# Altium footprint library LPSON_RES.PcbLib: 28 footprints (part 1 of 2)
Each footprint in its own frame and in the unit in brackets; x right, y up, seen from the top. Pads: shape width x height; smd on the part's side, far side on the other; paste and mask are expansions set on the pad; w line width, h text height; cw(c..) or ccw(c..) is an arc to the next point about the centre after c.
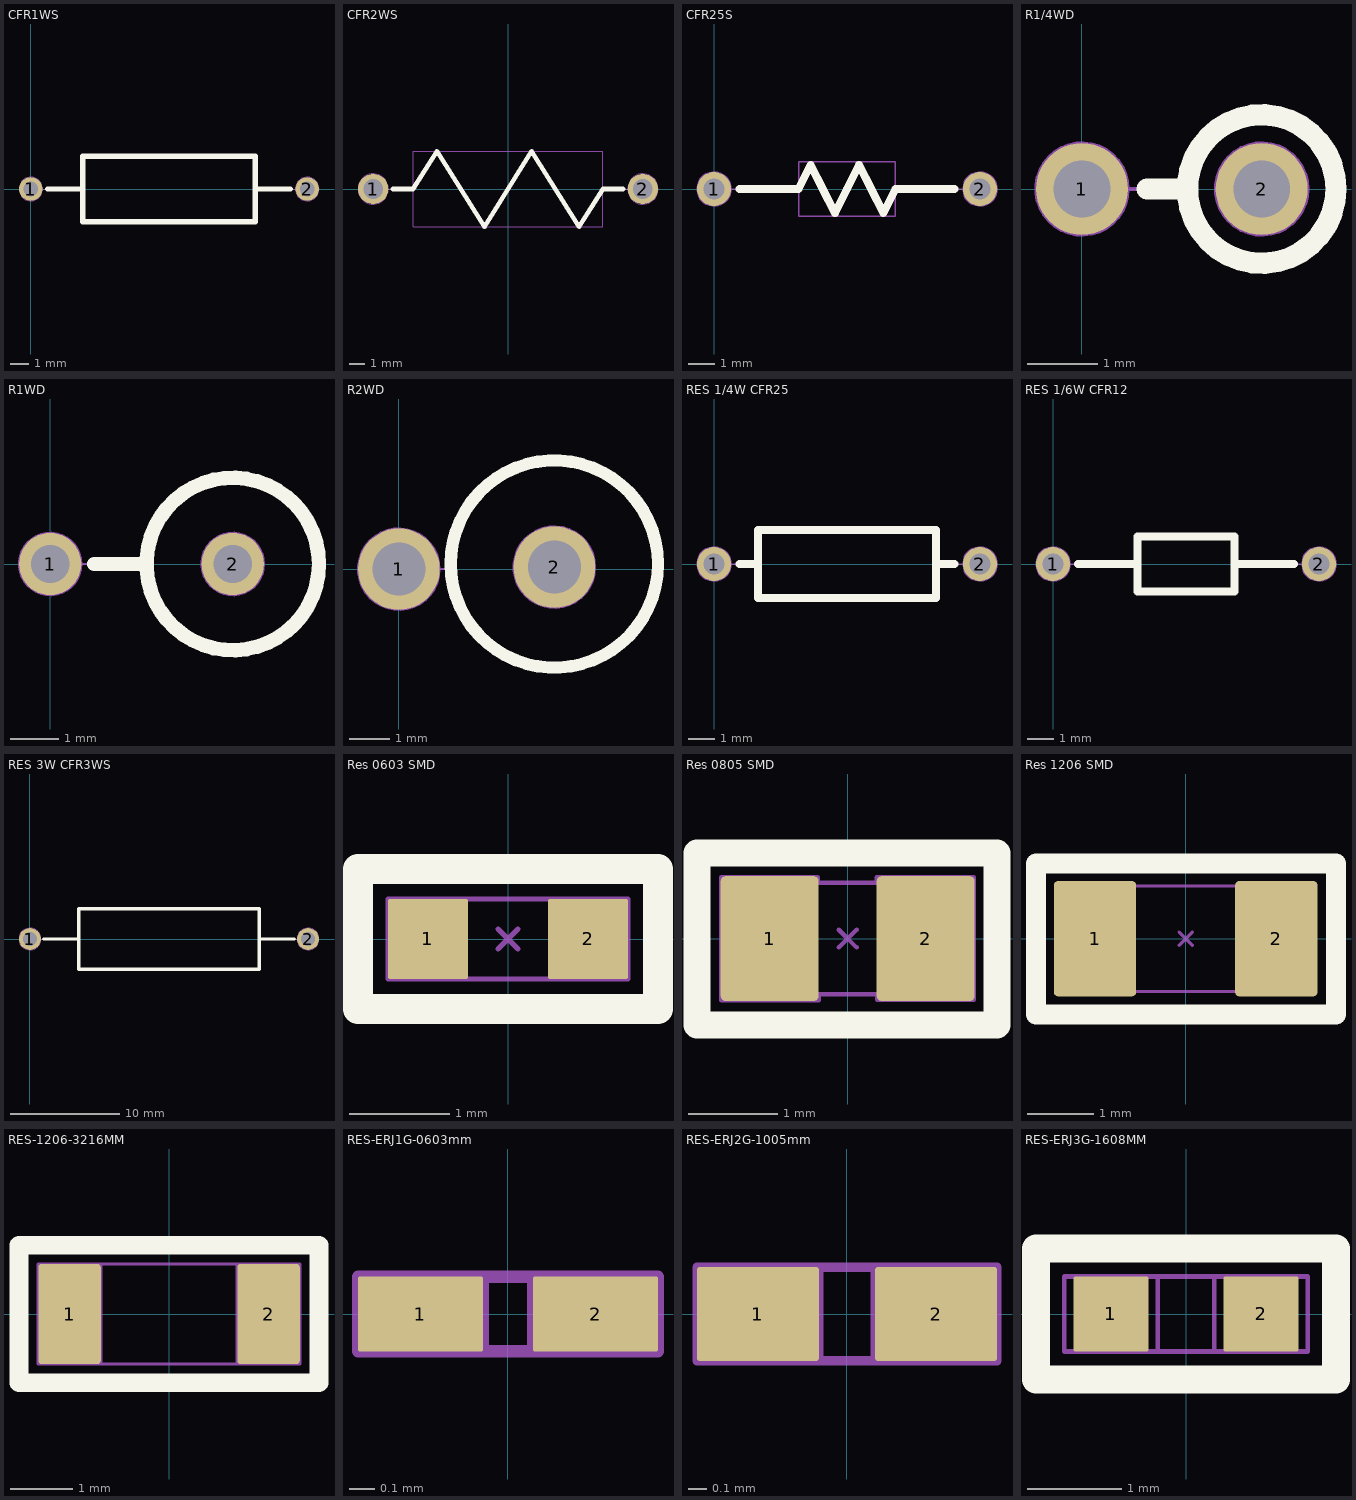
[diagram p0: the footprints below, top view; thin cyan lines are the x and y axes]

## CFR1WS [mm] "RESISTOR_1W"
height 3.6
pads (2):
  round 1.3 hole 0.8: 1(0,0) 2(15.24,0)
Top Overlay:
  lines w0.3: 0.94,0 2.87,0 ; 12.37,0 14.32,0 ; 2.87,-1.8 2.87,1.8 12.37,1.8 12.37,-1.8 2.87,-1.8
Mechanical 1:
  circle w0.05: c15.24,0 r0.65
  circle w0.05: c0,0 r0.65
  lines w0.05: 0.65,0 2.87,0 ; 12.37,0 14.58,0 ; 2.87,-1.8 2.87,1.8 12.37,1.8 12.37,-1.8 2.87,-1.8

## CFR2WS [mm] "RESISTOR_2W"
height 5
pads (2):
  round 2 hole 1.3: 1(-8.89,0) 2(8.89,0)
Top Overlay:
  lines w0.3: -7.6,0 -6.254,0 -4.687,2.5 -1.538,-2.5 ; -1.562,-2.5 1.562,2.5 4.687,-2.5 6.254,0 7.6,0
Mechanical 1:
  circle w0.05: c-8.89,0 r1
  circle w0.05: c8.89,0 r1
  lines w0.05: -7.89,0 -6.25,0 ; 6.25,0 7.9,0 ; 6.25,-2.5 6.25,2.5 ; 6.25,-2.5 -6.25,-2.5 -6.25,2.5 6.25,2.5 ; 6.25,-2.5 6.25,2.5

## CFR25S [mm] "RESISTOR_1/4W"
height 2.1
pads (2):
  round 1.3 hole 0.8: 1(0,0) 2(10.16,0)
Top Overlay:
  lines w0.3: 0.98,0 3.226,0 3.692,0.925 ; 9.18,0 6.934,0 6.468,-0.925 6.005,0 5.543,0.925 5.08,0 4.618,-0.925 4.155,0 ; 3.693,0.925 4.155,0 ; 3.692,0.925 3.693,0.925 ; 4.155,0 4.155,0
Mechanical 1:
  circle w0.05: c10.16,0 r0.65
  circle w0.05: c0,0 r0.65
  lines w0.05: 0.65,0 3.23,0 ; 6.93,0 9.5,0 ; 3.23,-1.05 6.93,-1.05 6.93,1.05 3.23,1.05 3.23,-1.05
3D body "User Library-RESISTOR  0_25 W  0_4 IN LEAD PITCH.step": height 2.93, standoff -2.54, extent -0.305,-1.156 10.465,1.156

## R1/4WD [mm] "R 1/4W, 2 Pin 2.54 stand"
height 4.7
pads (2):
  round 1.3 hole 0.8: 1(0,0) 2(2.54,0)
Top Overlay:
  circle w0.3: c2.54,0 r1.05
  lines w0.3: 0.92,0 1.49,0
Mechanical 1:
  circle w0.05: c2.54,0 r1.05
  circle w0.05: c2.54,0 r0.65
  circle w0.05: c0,0 r0.65
  lines w0.05: 0.65,0 1.49,0
3D body "SW3dPS-Res_Stand.STEP": height 7.3, standoff -1.45, extent -0.252,-0.85 3.46,0.991

## R1WD [mm] "R 1W, 2 pin 3.81 stand"
height 10.5
pads (2):
  round 1.3 hole 0.8: 1(0,0) 2(3.81,0)
Top Overlay:
  circle w0.3: c3.81,0 r1.8
  lines w0.3: 0.92,0 1.94,0
Mechanical 1:
  circle w0.05: c3.81,0 r1.8
  circle w0.05: c0,0 r0.65
  circle w0.05: c3.81,0 r0.65
  lines w0.05: 0.65,0 2.01,0

## R2WD [mm] "R2W, 2 pin 3.81mm stand"
height 13.5
pads (2):
  round 2 hole 1.3: 1(0,0) 2(3.81,0.051)
Top Overlay:
  circle w0.3: c3.81,0.127 r2.54
Mechanical 1:
  circle w0.05: c3.81,0.127 r2.54
  circle w0.05: c0,0 r1
  circle w0.05: c3.81,0.051 r1
  lines w0.05: 1,0 1.27,0

## RES 1/4W CFR25 [mm] "Axial Device, Thru-Hole; 2 Leads fi 0.55"
height 2.6
pads (2):
  round 1.3 hole 0.8 mask+0.1: 1(0,0) 2(10.16,0)
Top Overlay:
  lines w0.3: 0.98,0 1.68,0 ; 8.48,0 9.18,0 ; 1.68,-1.3 1.68,1.3 8.48,1.3 8.48,-1.3 1.68,-1.3
Mechanical 1:
  circle w0.05: c0,0 r0.65
  circle w0.05: c10.16,0 r0.65
  lines w0.05: 0.65,0 1.68,0 ; 8.48,0 9.48,0 ; 1.68,-1.3 8.48,-1.3 8.48,1.3 1.68,1.3 1.68,-1.3
  text "R?" at 0.08,0 h0.5
3D body "User Library-RESISTOR  0_25 W  0_4 IN LEAD PITCH.step": height 2.93, standoff -2.54, extent -0.305,-1.156 10.465,1.156

## RES 1/6W CFR12 [mm] "Axial Device, Thru-Hole; 2 Leads fi 0.45"
height 2.1
pads (2):
  round 1.3 hole 0.8 mask+0.1: 1(0,0) 2(10.16,0)
Top Overlay:
  lines w0.3: 0.953,0 3.23,0 ; 6.93,0 9.207,0 ; 3.23,-1.05 3.23,1.05 6.93,1.05 6.93,-1.05 3.23,-1.05
Mechanical 1:
  circle w0.05: c0,0 r0.65
  circle w0.05: c10.16,0 r0.65
  lines w0.05: 0.65,0 3.23,0 ; 6.93,0 9.512,0 ; 3.23,-1.05 6.93,-1.05 6.93,1.05 3.23,1.05 3.23,-1.05
  text "R?" at 0,0 h0.5
3D body "User Library-RESISTOR  0_25 W  0_4 IN LEAD PITCH.step": height 2.93, standoff -2.54, extent -0.305,-1.156 10.465,1.156

## RES 3W CFR3WS [mm] "Axial Device, Thru-Hole; 2 Leads fi 0.8"
height 5.5
pads (2):
  round 2 hole 1.3 mask+0.1: 1(0,0) 2(25.4,0)
Top Overlay:
  lines w0.3: 1.27,0 4.45,0 ; 20.95,0 24.13,0 ; 4.45,-2.75 20.95,-2.75 20.95,2.75 4.45,2.75 4.45,-2.75
Mechanical 1:
  circle w0.05: c25.4,0 r1
  circle w0.05: c0,0 r1
  lines w0.05: 1,0 4.45,0 ; 20.95,0 24.384,0 ; 4.45,-2.75 4.45,2.75 20.95,2.75 20.95,-2.75 4.45,-2.75
  text "R?" at 0,0 h0.5
3D body "ressitor 3W.step": height 5.6, standoff -7.5, extent 0.87,-2.6 24.53,2.6

## Res 0603 SMD [mm] "Reflow Soldering"
pads (2):
  rrect5% 0.8x0.8 smd mask+0.1: 1(-0.8,0) 2(0.8,0)
Top Overlay:
  lines w0.3: -1.5,-0.7 1.5,-0.7 1.5,0.7 -1.5,0.7 -1.5,-0.7
Mechanical 2:
  lines w0.05: -0.8,-0.4 -1.2,-0.4 -1.2,0.4 -0.8,0.4 ; -0.8,-0.4 -0.8,-0.4 ; -0.8,-0.4 0.8,-0.4 ; -0.8,-0.4 -0.8,0.4 ; -0.8,0.4 0.8,0.4 ; 0.8,-0.4 1.2,-0.4 1.2,0.4 0.8,0.4 ; 0.8,-0.4 0.8,0.4
Mechanical 15:
  lines w0.05: -0.1,-0.1 0.1,0.1 ; -0.1,0.1 0.1,-0.1 ; -0.8,-0.4 -0.8,0.4 0.8,0.4 0.8,-0.4 -0.8,-0.4
3D body "User Library-SMD RESISTOR-10603.STEP": height 0.48, standoff 0.02, extent -0.8,-0.4 0.8,0.4

## Res 0805 SMD [mm] "Reflow Soldering"
pads (2):
  rrect10% 1.1x1.4 smd mask+0.1: 1(-0.875,0) 2(0.875,0)
Top Overlay:
  lines w0.3: -1.69,-0.97 -1.69,0.96 1.675,0.96 1.675,-0.97 -1.69,-0.97
Mechanical 2:
  lines w0.05: -0.331,0.642 -0.334,0.642 -0.334,0.687 -1.416,0.687 -1.416,-0.69 -1.413,-0.69 -0.327,-0.69 ; -0.325,-0.69 -0.325,-0.632 ; 0.324,0.632 0.324,0.69 ; 0.327,0.69 1.413,0.69 ; 0.334,-0.642 0.334,-0.687 1.416,-0.687 1.416,0.69 ; -1,-0.625 1,-0.625 1,0.625 -1,0.625 -1,-0.625
Mechanical 15:
  lines w0.05: -0.1,-0.1 0.1,0.1 ; -0.1,0.1 0.1,-0.1 ; -1,-0.625 1,-0.625 1,0.625 -1,0.625 -1,-0.625
3D body "User Library-SMD RESISTOR-10805.STEP": height 0.62, standoff 0.02, extent -1,-0.625 1,0.625

## Res 1206 SMD [mm] "Reflow Soldering"
pads (2):
  rrect10% 1.25x1.75 smd mask+0.1: 1(-1.375,0) 2(1.375,0)
Top Overlay:
  lines w0.3: -2.27,-1.15 -2.27,1.14 2.28,1.14 2.28,-1.15 -2.27,-1.15
Mechanical 2:
  lines w0.05: -0.1,-0.1 0.1,0.1 ; -0.1,0.1 0.1,-0.1 ; -1.6,-0.8 1.6,-0.8 1.6,0.8 -1.6,0.8 -1.6,-0.8
3D body "User Library-SMD RESISTOR-11206.STEP": height 0.65, standoff 0.05, extent -1.6,-0.8 1.6,0.8

## RES-1206-3216MM [mm] "32X16MM"
height 1
pads (2):
  rrect10% 1x1.6 smd mask+0.1: 1(-1.592,0) 2(1.592,0)
Top Overlay:
  lines w0.3: -2.4,-1.1 2.4,-1.1 2.4,1.1 -2.4,1.1 -2.4,-1.1
Mechanical 1:
  lines w0.05: -2.092,-0.8 -2.092,0.8 -1.092,0.8 -1.092,-0.8 -2.092,-0.8 ; -1.6,0.8 -1.592,0.8 -1.592,-0.8 1.592,-0.8 1.592,0.8 -1.6,0.8 ; 1.092,-0.8 2.092,-0.8 2.092,0.8 1.092,0.8 1.092,-0.8
  text "R?" at 0,0 h1

## RES-ERJ1G-0603mm [mm] "Chip Resistor, Body 0603mm, 0.05W 0201inch"
height 0.26
pads (2):
  rrect5% 0.5x0.3 smd mask+0.05: 1(-0.35,0) 2(0.35,0)
Mechanical 1:
  lines w0.05: -0.6,-0.15 -0.1,-0.15 -0.1,0.15 -0.6,0.15 -0.6,-0.15 ; -0.3,-0.15 0.3,-0.15 0.3,0.15 -0.3,0.15 -0.3,-0.15 ; 0.1,-0.15 0.1,0.15 0.6,0.15 0.6,-0.15 0.1,-0.15
  text "R?" at 0,0 h0.5
3D body "User Library-Chip Resistor2 (6).step": height 0.3, standoff 0, extent -0.3,-0.15 0.3,0.15

## RES-ERJ2G-1005mm [mm] "Chip Resistor, Body 1005mm, 0.1W 0402inch"
height 0.4
pads (2):
  rrect5% 0.65x0.5 smd mask+0.1: 1(-0.475,0) 2(0.475,0)
Mechanical 1:
  lines w0.05: -0.8,-0.25 -0.8,0.25 -0.15,0.25 -0.15,-0.25 -0.8,-0.25 ; -0.5,-0.25 0.5,-0.25 0.5,0.25 -0.5,0.25 -0.5,-0.25 ; 0.15,-0.25 0.8,-0.25 0.8,0.25 0.15,0.25 0.15,-0.25
  text "R?" at 0,0 h0.5
3D body "User Library-Chip Resistor2 (7).step": height 0.4, standoff 0, extent -0.5,-0.25 0.5,0.25

## RES-ERJ3G-1608MM [mm] "Chip Resistor, Body 1608mm, 0.1W 0603inch"
height 0.45
pads (2):
  rrect5% 0.8x0.8 smd mask+0.1: 1(-0.8,0) 2(0.8,0)
Top Overlay:
  lines w0.3: -1.6,-0.7 1.6,-0.7 1.6,0.7 -1.6,0.7 -1.6,-0.7
Mechanical 1:
  lines w0.05: -1.3,-0.4 -0.3,-0.4 -0.3,0.4 -1.3,0.4 -1.3,-0.4 ; -0.8,-0.4 -0.8,0.4 0.8,0.4 0.8,-0.4 -0.8,-0.4 ; 0.3,-0.4 0.3,0.4 1.3,0.4 1.3,-0.4 0.3,-0.4
  text "R?" at 0,0 h0.5
3D body "User Library-Chip Resistor2 (5).step": height 0.55, standoff 0, extent -0.8,-0.4 0.8,0.4